# EAGLE library part ISPGDS14PL (library AMD_Taxi)
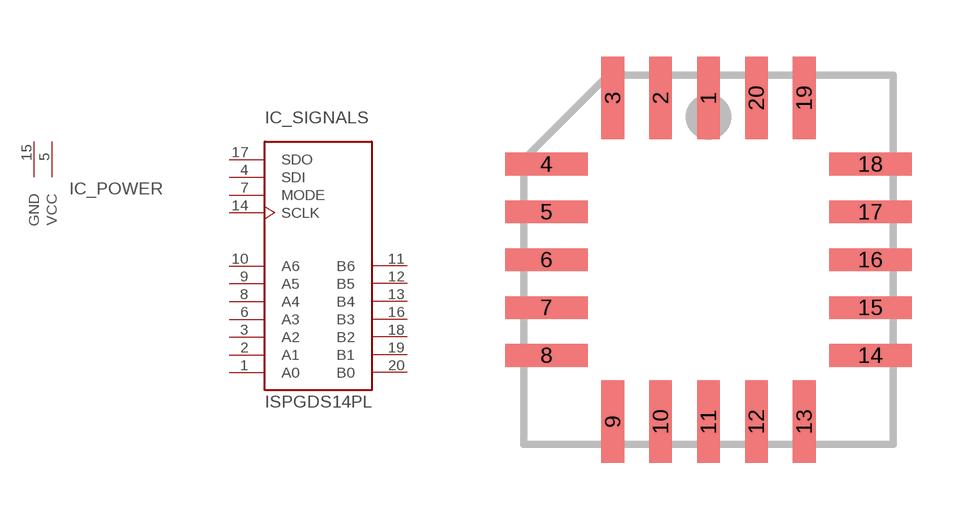
[diagram p5: symbol with the pads of PLCC20S; footprint PLCC20S]

Designator prefix IC; gates _SIGNALS=ISPGDS14 _POWER=VCCGND

## ISPGDS14PL  [PLCC20S]
1  _SIGNALS:A0
2  _SIGNALS:A1
3  _SIGNALS:A2
4  _SIGNALS:SDI  in
5  _POWER:VCC  sup
6  _SIGNALS:A3
7  _SIGNALS:MODE  in
8  _SIGNALS:A4
9  _SIGNALS:A5
10  _SIGNALS:A6
11  _SIGNALS:B6
12  _SIGNALS:B5
13  _SIGNALS:B4
14  _SIGNALS:SCLK  in
15  _POWER:GND  sup
16  _SIGNALS:B3
17  _SIGNALS:SDO  out
18  _SIGNALS:B2
19  _SIGNALS:B1
20  _SIGNALS:B0

## Footprint PLCC20S (pad centres in mm)
smd 0.6 x 2.2: 1 0,4.3; 2 -1.27,4.3; 3 -2.54,4.3; 9 -2.54,-4.3; 10 -1.27,-4.3; 11 0,-4.3; 12 1.27,-4.3; 13 2.54,-4.3; 19 2.54,4.3; 20 1.27,4.3
smd 2.2 x 0.6: 4 -4.3,2.54; 5 -4.3,1.27; 6 -4.3,0; 7 -4.3,-1.27; 8 -4.3,-2.54; 14 4.3,-2.54; 15 4.3,-1.27; 16 4.3,0; 17 4.3,1.27; 18 4.3,2.54